# EAGLE library part LEGACY_BOOTLOADER-TQFP (library Teensy_DIY_v1.0)
MINI54TAN Bootloader from PJRC.com, preprogrammed with Teensy 3.0, 3.1 bootloader. This is a deprecated bootloader chip and only supports the MK20D128 and MK20D256 (Teensy 3.0, 3.1) MCUs. It cannot be used with the Teensy LC MCU (MKL26Z). Note, while Pauls schematic mentions connections to 3.4 and 3.5, these are not used and will never be used. See the strore for more info: https://www.pjrc.com/store/ic_mini54_tqfp.html
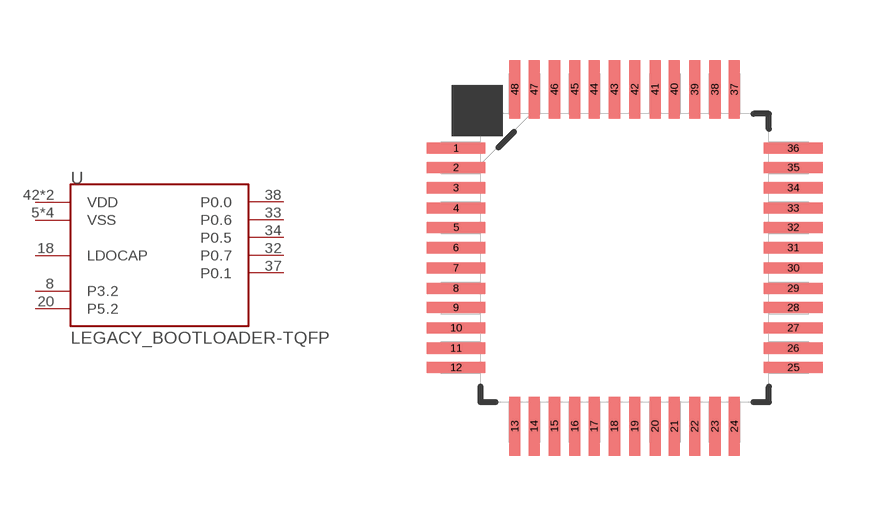
[diagram p0: symbol with the pads of QFP50P900X900X160-48N; footprint QFP50P900X900X160-48N]

Designator prefix -

## LEGACY_BOOTLOADER-TQFP"  [QFP50P900X900X160-48N]
5  VSS
8  P3.2
17  VSS
18  LDOCAP
20  P5.2
25  VSS
32  P0.7
33  P0.6
34  P0.5
37  P0.1
38  P0.0
42  VDD
43  VDD
47  VSS

## Footprint QFP50P900X900X160-48N (pad centres in mm)
smd 1.473 x 0.279: 1 -4.216,2.743; 2 -4.216,2.261; 3 -4.216,1.753; 4 -4.216,1.245; 5 -4.216,0.762; 6 -4.216,0.254; 7 -4.216,-0.254; 8 -4.216,-0.762; 9 -4.216,-1.245; 10 -4.216,-1.753; 11 -4.216,-2.261; 12 -4.216,-2.743; 25 4.216,-2.743; 26 4.216,-2.261; 27 4.216,-1.753; 28 4.216,-1.245; 29 4.216,-0.762; 30 4.216,-0.254; 31 4.216,0.254; 32 4.216,0.762; 33 4.216,1.245; 34 4.216,1.753; 35 4.216,2.261; 36 4.216,2.743
smd 0.279 x 1.473: 13 -2.743,-4.216; 14 -2.261,-4.216; 15 -1.753,-4.216; 16 -1.245,-4.216; 17 -0.762,-4.216; 18 -0.254,-4.216; 19 0.254,-4.216; 20 0.762,-4.216; 21 1.245,-4.216; 22 1.753,-4.216; 23 2.261,-4.216; 24 2.743,-4.216; 37 2.743,4.216; 38 2.261,4.216; 39 1.753,4.216; 40 1.245,4.216; 41 0.762,4.216; 42 0.254,4.216; 43 -0.254,4.216; 44 -0.762,4.216; 45 -1.245,4.216; 46 -1.753,4.216; 47 -2.261,4.216; 48 -2.743,4.216